# Altium footprint library SMD Resistors.PcbLib: 15 footprints
Each footprint in its own frame and in the unit in brackets; x right, y up, seen from the top. Pads: shape width x height; smd on the part's side, far side on the other; paste and mask are expansions set on the pad; w line width, h text height; cw(c..) or ccw(c..) is an arc to the next point about the centre after c.
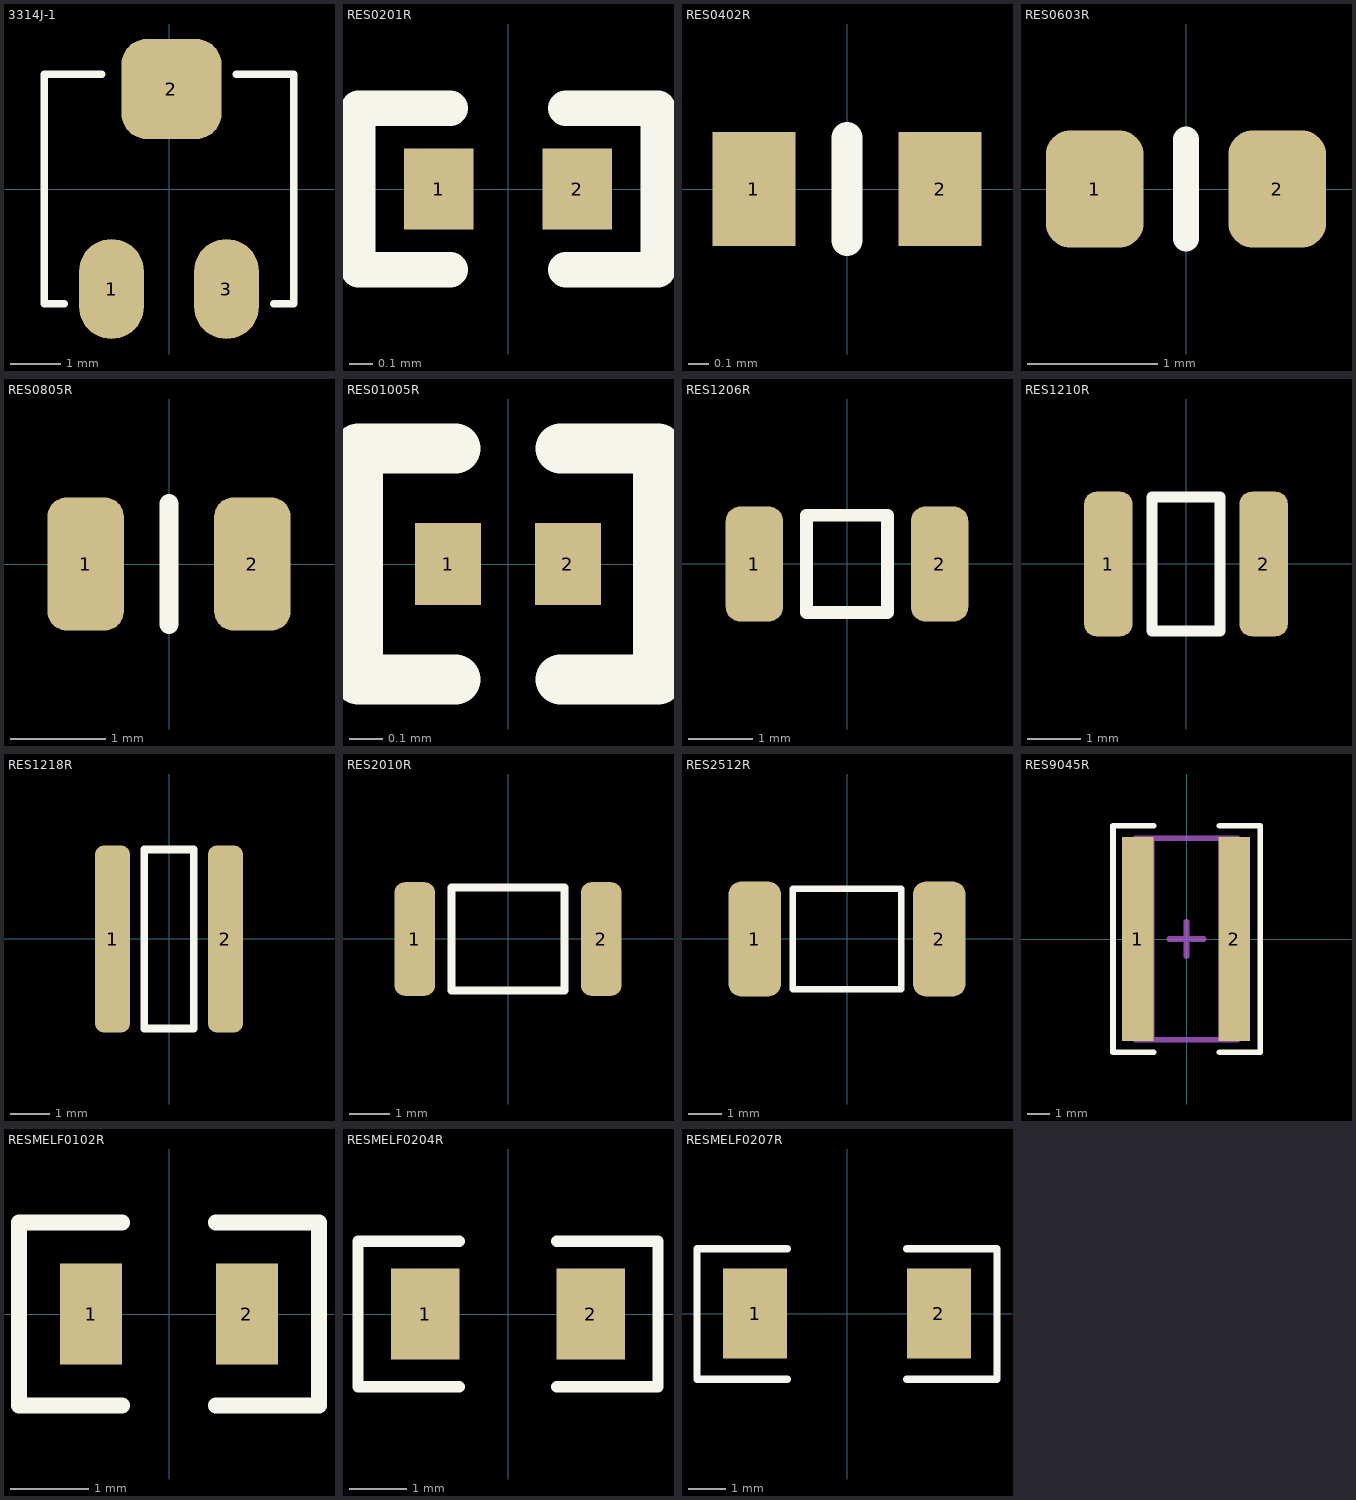
[diagram p0: the footprints below, top view; thin cyan lines are the x and y axes]

## 3314J-1 [mm]
pads (3):
  oval 1.3x2 smd: 1(-1.15,-2) 3(1.15,-2)
  rrect50% 2x2 smd: 2(0.05,2)
Top Overlay:
  lines w0.15: -2.1,-2.3 -2.5,-2.3 -2.5,2.3 -1.35,2.3 ; 1.35,2.3 2.5,2.3 2.5,-2.3 2.1,-2.3
3D body "User Library-3314j-1-502e.STEP": height 2.74, standoff 0.01, extent -2.499,-2.502 2.5,2.502

## RES0201R [mm] "resistor 0201 reflow soldering"
pads (2):
  rect 0.3x0.35 smd paste+0 mask+0.075: 1(-0.3,0) 2(0.3,0)
Top Overlay:
  lines w0.152: -0.25,-0.35 -0.65,-0.35 -0.65,0.35 -0.25,0.35 ; 0.25,-0.35 0.65,-0.35 0.65,0.35 0.25,0.35
3D body "User Library-RES_0603-0201.step": height 0.35, standoff 0.01, extent -0.34,-0.165 0.34,0.165

## RES0402R [mm] "resistor 0402 reflow soldering"
pads (2):
  rect 0.4x0.55 smd: 1(-0.45,0) 2(0.45,0)
Top Overlay:
  lines w0.15: 0,-0.25 0,0.25
3D body "User Library-CR1005-0402.step": height 0.36, standoff 0.01, extent -0.5,-0.25 0.5,0.25

## RES0603R [mm] "resistor 0603 reflow soldering"
pads (2):
  rrect50% 0.75x0.9 smd: 1(-0.7,0) 2(0.7,0)
Top Overlay:
  lines w0.2: 0,-0.381 0,0.381
3D body "0603_RES.STEP": height 0.46, standoff 0.01, extent -0.8,-0.4 0.8,0.4

## RES0805R [mm] "resistor 0805 reflow soldering"
pads (2):
  rrect50% 0.8x1.4 smd: 1(-0.875,0) 2(0.875,0)
Top Overlay:
  lines w0.2: 0,-0.635 0,0.635
3D body "0805_RES.STEP": height 0.61, standoff 0.01, extent -1,-0.625 1,0.625

## RES01005R [mm] "resistor 01005 reflow soldering"
pads (2):
  rect 0.2x0.25 smd paste+0 mask+0.05: 1(-0.182,0) 2(0.182,0)
Top Overlay:
  lines w0.152: -0.16,-0.35 -0.455,-0.35 -0.455,0.35 -0.16,0.35 ; 0.16,-0.35 0.455,-0.35 0.455,0.35 0.16,0.35
3D body: height 0.13, standoff 0, extent -0.2,-0.1 -0.1,0.1
3D body: height 0.13, standoff 0, extent -0.1,-0.1 0.1,0.1
3D body: height 0.13, standoff 0, extent 0.1,-0.1 0.2,0.1

## RES1206R [mm] "resistor 1206 reflow soldering"
pads (2):
  rrect50% 0.9x1.8 smd: 1(-1.45,0) 2(1.45,0)
Top Overlay:
  lines w0.2: -0.635,-0.762 -0.635,0.762 0.635,0.762 0.635,-0.762 -0.635,-0.762
3D body "User Library-CR3216-1206.step": height 0.61, standoff 0.01, extent -1.6,-0.8 1.6,0.8

## RES1210R [mm] "resistor 1210 reflow soldering"
pads (2):
  rrect50% 0.9x2.7 smd: 1(-1.45,0) 2(1.45,0)
Top Overlay:
  lines w0.2: -0.635,-1.25 0.635,-1.25 0.635,1.25 -0.635,1.25 -0.635,-1.25
3D body "User Library-SMD Resistors (1).step": height 0.56, standoff 0.01, extent -1.6,-1.255 1.6,1.255

## RES1218R [mm] "resistor 1218 reflow soldering"
pads (2):
  rrect50% 0.9x4.8 smd: 1(-1.45,0) 2(1.45,0)
Top Overlay:
  lines w0.2: -0.635,-2.3 0.635,-2.3 0.635,2.3 -0.635,2.3 -0.635,-2.3
3D body "User Library-SMD Resistors.step": height 0.56, standoff 0.01, extent -1.6,-2.305 1.6,2.305

## RES2010R [mm] "resistor 2010 reflow soldering"
pads (2):
  rrect50% 1x2.8 smd: 1(-2.3,0) 2(2.3,0)
Top Overlay:
  lines w0.2: -1.397,-1.27 1.397,-1.27 1.397,1.27 -1.397,1.27 -1.397,-1.27
3D body "User Library-SMD Resistors (2).step": height 0.61, standoff 0.01, extent -2.5,-1.255 2.5,1.255

## RES2512R [mm] "resistor 2512 reflow soldering"
pads (2):
  rrect50% 1.6x3.5 smd: 1(-2.8,0) 2(2.8,0)
Top Overlay:
  lines w0.2: -1.651,-1.524 -1.651,1.524 1.651,1.524 1.651,-1.524 -1.651,-1.524
3D body "User Library-SMD Resistors (3).step": height 0.61, standoff 0.01, extent -3.15,-1.58 3.15,1.58

## RES9045R [mm] "Resistor 4W Metal Foil Current Sense FCSL series OHMITE"
height 0.5
pads (2):
  rect 1.4x9 smd: 1(-2.15,0) 2(2.1,0)
Top Overlay:
  lines w0.254: -1.45,-5 -3.25,-5 -3.25,0 -3.25,5 -1.45,5 ; 1.45,-5 3.25,-5 3.25,0 3.25,5 1.45,5
Mechanical 15:
  lines w0.254: -1.55,-4.45 -1.55,4.45 ; -0.762,0 0.762,0 ; 0,-0.762 0,0.762 ; 1.55,-4.45 1.55,4.45 ; -2.25,-4.45 2.25,-4.45 2.25,4.45 -2.25,4.45 -2.25,-4.45
3D body: height 0.5, standoff 0.25, extent -2.25,-4.45 2.25,4.45
3D body: height 0.25, standoff 0, extent 1.55,-4.45 2.25,4.45
3D body: height 0.25, standoff 0, extent -2.25,-4.45 -1.55,4.45

## RESMELF0102R [mm] "MELF resistor 0102 reflow soldering"
pads (2):
  rect 0.8x1.3 smd: 1(-1,0) 2(1,0)
Top Overlay:
  lines w0.203: -0.6,-1.175 -1.925,-1.175 -1.925,1.175 -0.6,1.175 ; 0.6,-1.175 1.925,-1.175 1.925,1.175 0.6,1.175
3D body "RESMELF0102.stp": height 1.1, standoff 0, extent -1.099,-0.55 1.099,0.55

## RESMELF0204R [mm] "MELF resistor 0204 reflow soldering"
pads (2):
  rect 1.2x1.6 smd: 1(-1.45,0) 2(1.45,0)
Top Overlay:
  lines w0.2: -0.85,-1.275 -2.625,-1.275 -2.625,1.275 -0.85,1.275 ; 0.85,-1.275 2.625,-1.275 2.625,1.275 0.85,1.275
3D body "RESMELF0204.stp": height 1.4, standoff 0, extent -1.8,-0.7 1.8,0.7

## RESMELF0207R [mm] "MELF resistor 0207 reflow soldering"
pads (2):
  rect 1.7x2.4 smd: 1(-2.45,0) 2(2.45,0)
Top Overlay:
  lines w0.2: -1.6,-1.75 -4,-1.75 -4,1.725 -1.6,1.725 ; 1.6,-1.75 4,-1.75 4,1.725 1.6,1.725
3D body "RESMELF0207.stp": height 2.26, standoff 0, extent -2.9,-1.125 2.9,1.131